# Altium schematic symbol library RES 7.68k 0.15W.Schlib: 1 symbol
Pins are listed as number, name and electrical type; pins without a type are passive.

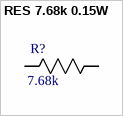
[diagram p0: symbol RES 7.68k 0.15W]

## RES 7.68k 0.15W
designator R?, comment 7.68k
RES SMD 7.68K OHM 0.1% 0.15W 0805
pins: 1 R1, 2 R2